# EAGLE library part DS3234 (library SparkFun-Clocks_)
Maxim DS3234 - Extremely Accurate SPI RTC The DS3234 is a low-cost, extremely accurate SPI™ bus real-time clock (RTC) with an integrated temperature-compensated crystal oscillator (TCXO) and crystal. SparkFun Products: Real Time Clock - DS3234 <https://www.sparkfun.com/products/10079> (COM-10079) SparkFun DeadOn RTC Breakout <https://www.sparkfun.com/products/10160> (BOB-10160) Datasheet <https://www.sparkfun.com/datasheets/BreakoutBoards/DS3234.pdf>
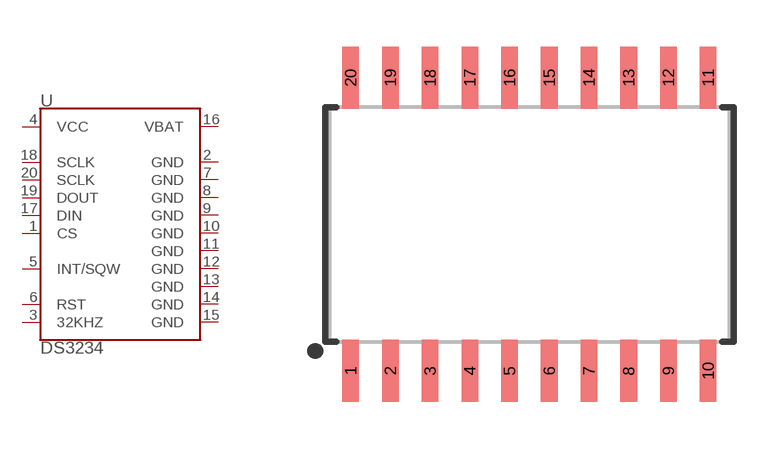
[diagram p3: symbol with the pads of SO20-0.3; footprint SO20-0.3]

Designator prefix U

## DS3234 (PROD_ID: IC-10016; SF_ID: COM-10079)  [SO20-0.3]
1  CS
2  GND
3  32KHZ
4  VCC
5  INT/SQW
6  RST
7  GND
8  GND
9  GND
10  GND
11  GND
12  GND
13  GND
14  GND
15  GND
16  VBAT
17  DIN
18  SCLK
19  DOUT
20  SCLK

## Footprint SO20-0.3 (pad centres in mm)
20-Pin SOIC (0.3" Wide) Dimensions: ~0.5x0.3" Package used by Maxim DS3234 SPI RTC Package Outline <http://pdfserv.maximintegrated.com/package_dwgs/21-0042.PDF> (W20#H2) Land Pattern <http://pdfserv.maximintegrated.com/land_patterns/90-0108.PDF>
smd 0.53 x 1.98: 1 -5.715,-4.685; 2 -4.445,-4.685; 3 -3.175,-4.685; 4 -1.905,-4.685; 5 -0.635,-4.685; 6 0.635,-4.685; 7 1.905,-4.685; 8 3.175,-4.685; 9 4.445,-4.685; 10 5.715,-4.685; 11 5.715,4.685; 12 4.445,4.685; 13 3.175,4.685; 14 1.905,4.685; 15 0.635,4.685; 16 -0.635,4.685; 17 -1.905,4.685; 18 -3.175,4.685; 19 -4.445,4.685; 20 -5.715,4.685